# Altium schematic symbol library std_0402_trial.SchLib: 3 symbols
Pins are listed as number, name and electrical type; pins without a type are passive.

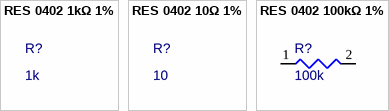
[diagram p0: symbols RES 0402 1kΩ 1% to RES 0402 100kΩ 1%]

## RES 0402 1kΩ 1%
designator R?, comment 1k
1kΩ 63mW 1% 0402 (1005 Metric) SMD thick film AEC-Q200; Manufacturer 1: Stackpole Electronics; Manufacturer Part Number 1: RMCF0402FT1K00; Voltage Rating: 50V; Value: 1k; Case/Package: 0402; Mounting Technology: SMT; Pins: 2; Power: 63mW; RoHS Compliant: Yes; Tolerance: 1%; Max Operating Temperature: 155°C; Min Operating Temperature: -55°C; Manufacturer 2: Yageo Group; Manufacturer Part Number 2: AC0402FR-071KL; Manufacturer 3: Vishay; Manufacturer Part Number 3: CRCW04021K00FKED
footprint RESC0402(1005)_L (Chip Resistor, Body 2.0x1.3mm, IPC High Density)
1 alternate drawing of the same symbol

## RES 0402 10Ω 1%
designator R?, comment 10
10Ω 63mW 1% 0402 (1005 Metric) SMD thick film AEC-Q200; Manufacturer 1: Stackpole Electronics; Manufacturer Part Number 1: RMCF0402FT10R0; Voltage Rating: 50V; Value: 10; Case/Package: 0402; Mounting Technology: SMT; Pins: 2; Power: 63mW; RoHS Compliant: Yes; Tolerance: 1%; Max Operating Temperature: 155°C; Min Operating Temperature: -55°C; Manufacturer 2: Yageo Group; Manufacturer Part Number 2: AC0402FR-0710RL; Manufacturer 3: Vishay; Manufacturer Part Number 3: CRCW040210R0FKED
footprint RESC0402(1005)_L (Chip Resistor, Body 2.0x1.3mm, IPC High Density)
1 alternate drawing of the same symbol

## RES 0402 100kΩ 1%
designator R?, comment 100k
100kΩ 63mW 1% 0402 (1005 Metric) SMD thick film AEC-Q200; Manufacturer 1: Stackpole Electronics; Manufacturer Part Number 1: RMCF0402FT100K; Voltage Rating: 50V; Value: 100k; Case/Package: 0402; Mounting Technology: SMT; Pins: 2; Power: 63mW; RoHS Compliant: Yes; Tolerance: 1%; Max Operating Temperature: 155°C; Min Operating Temperature: -55°C; Manufacturer 2: Yageo Group; Manufacturer Part Number 2: AC0402FR-07100KL; Manufacturer 3: Vishay; Manufacturer Part Number 3: CRCW0402100KFKED
footprint RESC0402(1005)_L (Chip Resistor, Body 2.0x1.3mm, IPC High Density)
pins: 1, 2
1 alternate drawing of the same symbol